# Altium schematic symbol library B105digital_ic.SchLib: 36 symbols (part 4 of 4)
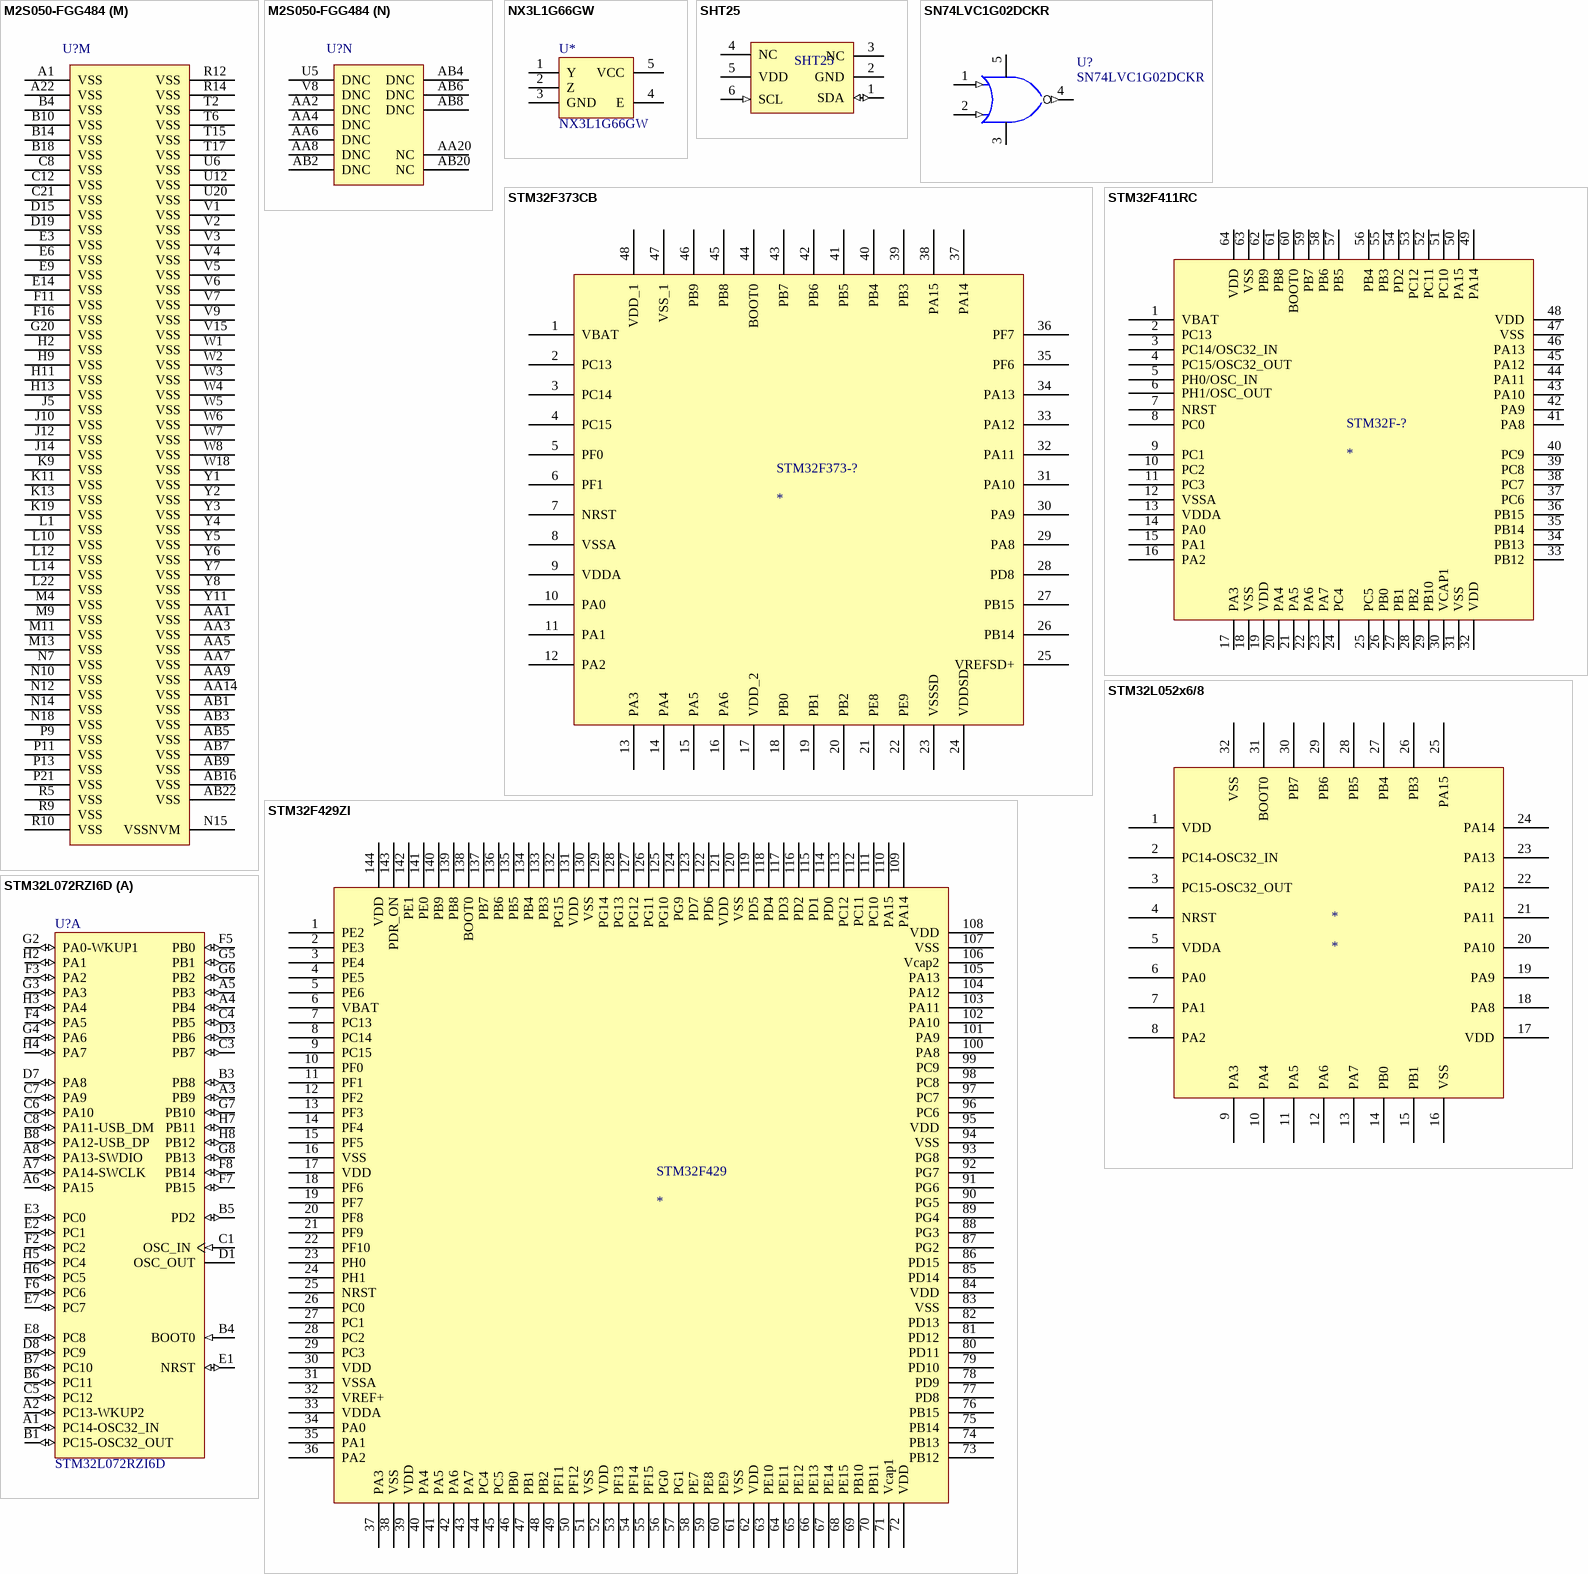
[diagram p6: symbols M2S050-FGG484 to STM32L072RZI6D]

## M2S050-FGG484 (continued)
part M pins: A1 VSS (power) "Ground pad for core and I/Os. Must always connect to ground.", A22 VSS (power) "Ground pad for core and I/Os. Must always connect to ground.", AA1 VSS (power) "Ground pad for core and I/Os. Must always connect to ground.", AA3 VSS (power) "Ground pad for core and I/Os. Must always connect to ground.", AA5 VSS (power) "Ground pad for core and I/Os. Must always connect to ground.", AA7 VSS (power) "Ground pad for core and I/Os. Must always connect to ground.", AA9 VSS (power) "Ground pad for core and I/Os. Must always connect to ground.", AA14 VSS (power) "Ground pad for core and I/Os. Must always connect to ground.", AB1 VSS (power) "Ground pad for core and I/Os. Must always connect to ground.", AB3 VSS (power) "Ground pad for core and I/Os. Must always connect to ground.", AB5 VSS (power) "Ground pad for core and I/Os. Must always connect to ground.", AB7 VSS (power) "Ground pad for core and I/Os. Must always connect to ground.", AB9 VSS (power) "Ground pad for core and I/Os. Must always connect to ground.", AB16 VSS (power) "Ground pad for core and I/Os. Must always connect to ground.", AB22 VSS (power) "Ground pad for core and I/Os. Must always connect to ground.", B4 VSS (power) "Ground pad for core and I/Os. Must always connect to ground.", B10 VSS (power) "Ground pad for core and I/Os. Must always connect to ground.", B14 VSS (power) "Ground pad for core and I/Os. Must always connect to ground.", B18 VSS (power) "Ground pad for core and I/Os. Must always connect to ground.", C8 VSS (power) "Ground pad for core and I/Os. Must always connect to ground.", C12 VSS (power) "Ground pad for core and I/Os. Must always connect to ground.", C21 VSS (power) "Ground pad for core and I/Os. Must always connect to ground.", D15 VSS (power) "Ground pad for core and I/Os. Must always connect to ground.", D19 VSS (power) "Ground pad for core and I/Os. Must always connect to ground.", E3 VSS (power) "Ground pad for core and I/Os. Must always connect to ground.", E6 VSS (power) "Ground pad for core and I/Os. Must always connect to ground.", E9 VSS (power) "Ground pad for core and I/Os. Must always connect to ground.", E14 VSS (power) "Ground pad for core and I/Os. Must always connect to ground.", F11 VSS (power) "Ground pad for core and I/Os. Must always connect to ground.", F16 VSS (power) "Ground pad for core and I/Os. Must always connect to ground.", G20 VSS (power) "Ground pad for core and I/Os. Must always connect to ground.", H2 VSS (power) "Ground pad for core and I/Os. Must always connect to ground.", H9 VSS (power) "Ground pad for core and I/Os. Must always connect to ground.", H11 VSS (power) "Ground pad for core and I/Os. Must always connect to ground.", H13 VSS (power) "Ground pad for core and I/Os. Must always connect to ground.", J5 VSS (power) "Ground pad for core and I/Os. Must always connect to ground.", J10 VSS (power) "Ground pad for core and I/Os. Must always connect to ground.", J12 VSS (power) "Ground pad for core and I/Os. Must always connect to ground.", J14 VSS (power) "Ground pad for core and I/Os. Must always connect to ground.", K9 VSS (power) "Ground pad for core and I/Os. Must always connect to ground.", K11 VSS (power) "Ground pad for core and I/Os. Must always connect to ground.", K13 VSS (power) "Ground pad for core and I/Os. Must always connect to ground.", K19 VSS (power) "Ground pad for core and I/Os. Must always connect to ground.", L1 VSS (power) "Ground pad for core and I/Os. Must always connect to ground.", L10 VSS (power) "Ground pad for core and I/Os. Must always connect to ground.", L12 VSS (power) "Ground pad for core and I/Os. Must always connect to ground.", L14 VSS (power) "Ground pad for core and I/Os. Must always connect to ground.", L22 VSS (power) "Ground pad for core and I/Os. Must always connect to ground.", M4 VSS (power) "Ground pad for core and I/Os. Must always connect to ground.", M9 VSS (power) "Ground pad for core and I/Os. Must always connect to ground.", M11 VSS (power) "Ground pad for core and I/Os. Must always connect to ground.", M13 VSS (power) "Ground pad for core and I/Os. Must always connect to ground.", N7 VSS (power) "Ground pad for core and I/Os. Must always connect to ground.", N10 VSS (power) "Ground pad for core and I/Os. Must always connect to ground.", N12 VSS (power) "Ground pad for core and I/Os. Must always connect to ground.", N14 VSS (power) "Ground pad for core and I/Os. Must always connect to ground.", N15 VSSNVM (power) "Analog sense circuit ground of eNVM. Must always connect to ground.", N18 VSS (power) "Ground pad for core and I/Os. Must always connect to ground.", P9 VSS (power) "Ground pad for core and I/Os. Must always connect to ground.", P11 VSS (power) "Ground pad for core and I/Os. Must always connect to ground.", P13 VSS (power) "Ground pad for core and I/Os. Must always connect to ground.", P21 VSS (power) "Ground pad for core and I/Os. Must always connect to ground.", R5 VSS (power) "Ground pad for core and I/Os. Must always connect to ground.", R9 VSS (power) "Ground pad for core and I/Os. Must always connect to ground.", R10 VSS (power) "Ground pad for core and I/Os. Must always connect to ground.", R12 VSS (power) "Ground pad for core and I/Os. Must always connect to ground.", R14 VSS (power) "Ground pad for core and I/Os. Must always connect to ground.", T2 VSS (power) "Ground pad for core and I/Os. Must always connect to ground.", T6 VSS (power) "Ground pad for core and I/Os. Must always connect to ground.", T15 VSS (power) "Ground pad for core and I/Os. Must always connect to ground.", T17 VSS (power) "Ground pad for core and I/Os. Must always connect to ground.", U6 VSS (power) "Ground pad for core and I/Os. Must always connect to ground.", U12 VSS (power) "Ground pad for core and I/Os. Must always connect to ground.", U20 VSS (power) "Ground pad for core and I/Os. Must always connect to ground.", V1 VSS (power) "Ground pad for core and I/Os. Must always connect to ground.", V2 VSS (power) "Ground pad for core and I/Os. Must always connect to ground.", V3 VSS (power) "Ground pad for core and I/Os. Must always connect to ground.", V4 VSS (power) "Ground pad for core and I/Os. Must always connect to ground.", V5 VSS (power) "Ground pad for core and I/Os. Must always connect to ground.", V6 VSS (power) "Ground pad for core and I/Os. Must always connect to ground.", V7 VSS (power) "Ground pad for core and I/Os. Must always connect to ground.", V9 VSS (power) "Ground pad for core and I/Os. Must always connect to ground.", V15 VSS (power) "Ground pad for core and I/Os. Must always connect to ground.", W1 VSS (power) "Ground pad for core and I/Os. Must always connect to ground.", W2 VSS (power) "Ground pad for core and I/Os. Must always connect to ground.", W3 VSS (power) "Ground pad for core and I/Os. Must always connect to ground.", W4 VSS (power) "Ground pad for core and I/Os. Must always connect to ground.", W5 VSS (power) "Ground pad for core and I/Os. Must always connect to ground.", W6 VSS (power) "Ground pad for core and I/Os. Must always connect to ground.", W7 VSS (power) "Ground pad for core and I/Os. Must always connect to ground.", W8 VSS (power) "Ground pad for core and I/Os. Must always connect to ground.", W18 VSS (power) "Ground pad for core and I/Os. Must always connect to ground.", Y1 VSS (power) "Ground pad for core and I/Os. Must always connect to ground.", Y2 VSS (power) "Ground pad for core and I/Os. Must always connect to ground.", Y3 VSS (power) "Ground pad for core and I/Os. Must always connect to ground.", Y4 VSS (power) "Ground pad for core and I/Os. Must always connect to ground.", Y5 VSS (power) "Ground pad for core and I/Os. Must always connect to ground.", Y6 VSS (power) "Ground pad for core and I/Os. Must always connect to ground.", Y7 VSS (power) "Ground pad for core and I/Os. Must always connect to ground.", Y8 VSS (power) "Ground pad for core and I/Os. Must always connect to ground.", Y11 VSS (power) "Ground pad for core and I/Os. Must always connect to ground."
part N pins: AA2 DNC "Do not connect. This pin should not be connected to any signals on the PCB; leave this pin unconnected.", AA4 DNC "Do not connect. This pin should not be connected to any signals on the PCB; leave this pin unconnected.", AA6 DNC "Do not connect. This pin should not be connected to any signals on the PCB; leave this pin unconnected.", AA8 DNC "Do not connect. This pin should not be connected to any signals on the PCB; leave this pin unconnected.", AA20 NC "No connect. This pin is not connected to circuitry within the device. This pin can be driven to any voltage or can be left floating with no effect on the operation of the device.", AB2 DNC "Do not connect. This pin should not be connected to any signals on the PCB; leave this pin unconnected.", AB4 DNC "Do not connect. This pin should not be connected to any signals on the PCB; leave this pin unconnected.", AB6 DNC "Do not connect. This pin should not be connected to any signals on the PCB; leave this pin unconnected.", AB8 DNC "Do not connect. This pin should not be connected to any signals on the PCB; leave this pin unconnected.", AB20 NC "No connect. This pin is not connected to circuitry within the device. This pin can be driven to any voltage or can be left floating with no effect on the operation of the device.", U5 DNC "Do not connect. This pin should not be connected to any signals on the PCB; leave this pin unconnected.", V8 DNC "Do not connect. This pin should not be connected to any signals on the PCB; leave this pin unconnected."
part A text: BANK 0
part B text: BANK 1
part C text: BANK 3
part D text: BANK 5
part E text: BANK 6
part F text: BANK 7
part G text: BANK 8

## NX3L1G66GW
designator U*
microswithc
footprint SOT-23-5 (SOT23, 5-Leads, Body 2,93x2,80mm, Pitch 0,95mm, IPC Medium Density)
footprint TSSOP-5 (TSSOP, 5-Leads, Body 2,05x1,25mm, Pitch 0,65mm, IPC Medium Density)
pins: 1 Y, 2 Z, 3 GND, 4 E, 5 VCC

## SHT25
designator SHT25  (value not drawn)
Sensor humedad y temperatura digital i2c
footprint SHT25 (humidity and temperature sensor)
pins: 1 SDA (io), 2 GND (power), 3 NC, 4 NC, 5 VDD (power), 6 SCL (in), 7 GND hidden to GND

## SN74LVC1G02DCKR
designator U?
IC GATE NOR 1CH 2-INP SC-70-5; Manufacturer: Texas Instruments; Logic Type: NOR Gate; Number of Circuits: 1; Number of Inputs: 2; Voltage - Supply: 1.65 V ~ 5.5 V; Current - Quiescent (Max): 10µA; Current - Output High, Low: 32mA, 32mA; Logic Level - Low: 0.7 V ~ 0.8 V; Logic Level - High: 1.7 V ~ 2 V; Max Propagation Delay @ V, Max CL: 4.5ns @ 5V, 50pF; Supplier 1: Digi-Key; Supplier Part Number 1: 296-11598-1-ND; Manufacturer Part Number: SN74LVC1G02DCKR; RoHS: RoHS Compliant; Category: Integrated Circuits (ICs); Packaging: Cut Tape (CT); Part Status: Active; Features: -; Operating Temperature: -40°C ~ 125°C; Mounting Type: Surface Mount; Supplier Device Package: SC-70-5; Package / Case: 5-TSSOP, SC-70-5, SOT-353; ComponentLink1URL: http://www.ti.com/lit/ds/symlink/sn74lvc1g02.pdf; ComponentLink1Description: http://www.ti.com/lit/ds/symlink/sn74lvc1g02.pdf; Supplier 2: Mouser; Supplier Part Number 2: 595-SN74LVC1G02DCKR; Supplier 3: Farnell; Supplier Part Number 3: 2395500
footprint SOT323-5L_L (SOT353, 5-Leads, Body 2x1.3mm, Pitch 0.65mm, Lead Span 2.1mm, IPC High Density)
footprint SOT323-5L_M (SOT353, 5-Leads, Body 2x1.3mm, Pitch 0.65mm, Lead Span 2.1mm, IPC Low Density)
footprint SOT323-5L_N (SOT353, 5-Leads, Body 2x1.3mm, Pitch 0.65mm, Lead Span 2.1mm, IPC Medium Density)
pins: 1 1A (in), 2 1B (in), 3 GND (power), 4 1Y (out), 5 VCC (power)

## STM32F373CB
designator STM32F373-?
footprint LQFP-48 (TSQFP, 48-Leads, Body 7,20x7,20mm, Pitch 0,50mm, IPC Medium Density)
pins: 1 VBAT, 2 PC13, 3 PC14, 4 PC15, 5 PF0, 6 PF1, 7 NRST, 8 VSSA, 9 VDDA, 10 PA0, 11 PA1, 12 PA2, 13 PA3, 14 PA4, 15 PA5, 16 PA6, 17 VDD_2, 18 PB0, 19 PB1, 20 PB2, 21 PE8, 22 PE9, 23 VSSSD, 24 VDDSD, 25 VREFSD+, 26 PB14, 27 PB15, 28 PD8, 29 PA8, 30 PA9, 31 PA10, 32 PA11, 33 PA12, 34 PA13, 35 PF6, 36 PF7, 37 PA14, 38 PA15, 39 PB3, 40 PB4, 41 PB5, 42 PB6, 43 PB7, 44 BOOT0, 45 PB8, 46 PB9, 47 VSS_1, 48 VDD_1

## STM32F411RC
designator STM32F-?
footprint LQFP-64 (TSQFP, 64-Leads, Body 10,00x10,00mm, Pitch 0,50mm, IPC Medium Density)
pins: 1 VBAT, 2 PC13, 3 PC14/OSC32_IN, 4 PC15/OSC32_OUT, 5 PH0/OSC_IN, 6 PH1/OSC_OUT, 7 NRST, 8 PC0, 9 PC1, 10 PC2, 11 PC3, 12 VSSA, 13 VDDA, 14 PA0, 15 PA1, 16 PA2, 17 PA3, 18 VSS, 19 VDD, 20 PA4, 21 PA5, 22 PA6, 23 PA7, 24 PC4, 25 PC5, 26 PB0, 27 PB1, 28 PB2, 29 PB10, 30 VCAP1, 31 VSS, 32 VDD, 33 PB12, 34 PB13, 35 PB14, 36 PB15, 37 PC6, 38 PC7, 39 PC8, 40 PC9, 41 PA8, 42 PA9, 43 PA10, 44 PA11, 45 PA12, 46 PA13, 47 VSS, 48 VDD, 49 PA14, 50 PA15, 51 PC10, 52 PC11, 53 PC12, 54 PD2, 55 PB3, 56 PB4, 57 PB5, 58 PB6, 59 PB7, 60 BOOT0, 61 PB8, 62 PB9, 63 VSS, 64 VDD

## STM32F429ZI
designator STM32F429
footprint LQFP-144
pins: 1 PE2, 2 PE3, 3 PE4, 4 PE5, 5 PE6, 6 VBAT, 7 PC13, 8 PC14, 9 PC15, 10 PF0, 11 PF1, 12 PF2, 13 PF3, 14 PF4, 15 PF5, 16 VSS, 17 VDD, 18 PF6, 19 PF7, 20 PF8, 21 PF9, 22 PF10, 23 PH0, 24 PH1, 25 NRST, 26 PC0, 27 PC1, 28 PC2, 29 PC3, 30 VDD, 31 VSSA, 32 VREF+, 33 VDDA, 34 PA0, 35 PA1, 36 PA2, 37 PA3, 38 VSS, 39 VDD, 40 PA4, 41 PA5, 42 PA6, 43 PA7, 44 PC4, 45 PC5, 46 PB0, 47 PB1, 48 PB2, 49 PF11, 50 PF12, 51 VSS, 52 VDD, 53 PF13, 54 PF14, 55 PF15, 56 PG0, 57 PG1, 58 PE7, 59 PE8, 60 PE9, 61 VSS, 62 VDD, 63 PE10, 64 PE11, 65 PE12, 66 PE13, 67 PE14, 68 PE15, 69 PB10, 70 PB11, 71 Vcap1, 72 VDD, 73 PB12, 74 PB13, 75 PB14, 76 PB15, 77 PD8, 78 PD9, 79 PD10, 80 PD11, 81 PD12, 82 PD13, 83 VSS, 84 VDD, 85 PD14, 86 PD15, 87 PG2, 88 PG3, 89 PG4, 90 PG5, 91 PG6, 92 PG7, 93 PG8, 94 VSS, 95 VDD, 96 PC6, 97 PC7, 98 PC8, 99 PC9, 100 PA8, 101 PA9, 102 PA10, 103 PA11, 104 PA12, 105 PA13, 106 Vcap2, 107 VSS, 108 VDD, 109 PA14, 110 PA15, 111 PC10, 112 PC11, 113 PC12, 114 PD0, 115 PD1, 116 PD2, 117 PD3, 118 PD4, 119 PD5, 120 VSS, 121 VDD, 122 PD6, 123 PD7, 124 PG9, 125 PG10, 126 PG11, 127 PG12, 128 PG13, 129 PG14, 130 VSS, 131 VDD, 132 PG15, 133 PB3, 134 PB4, 135 PB5, 136 PB6, 137 PB7, 138 BOOT0, 139 PB8, 140 PB9, 141 PE0, 142 PE1, 143 PDR_ON, 144 VDD

## STM32L052x6/8
designator *
footprint LQFP-32 (TQFP, 32-Leads, Body 7,00x7,00mm, Pitch 0,80mm, IPC Medium Density)
pins: 1 VDD, 2 PC14-OSC32_IN, 3 PC15-OSC32_OUT, 4 NRST, 5 VDDA, 6 PA0, 7 PA1, 8 PA2, 9 PA3, 10 PA4, 11 PA5, 12 PA6, 13 PA7, 14 PB0, 15 PB1, 16 VSS, 17 VDD, 18 PA8, 19 PA9, 20 PA10, 21 PA11, 22 PA12, 23 PA13, 24 PA14, 25 PA15, 26 PB3, 27 PB4, 28 PB5, 29 PB6, 30 PB7, 31 BOOT0, 32 VSS

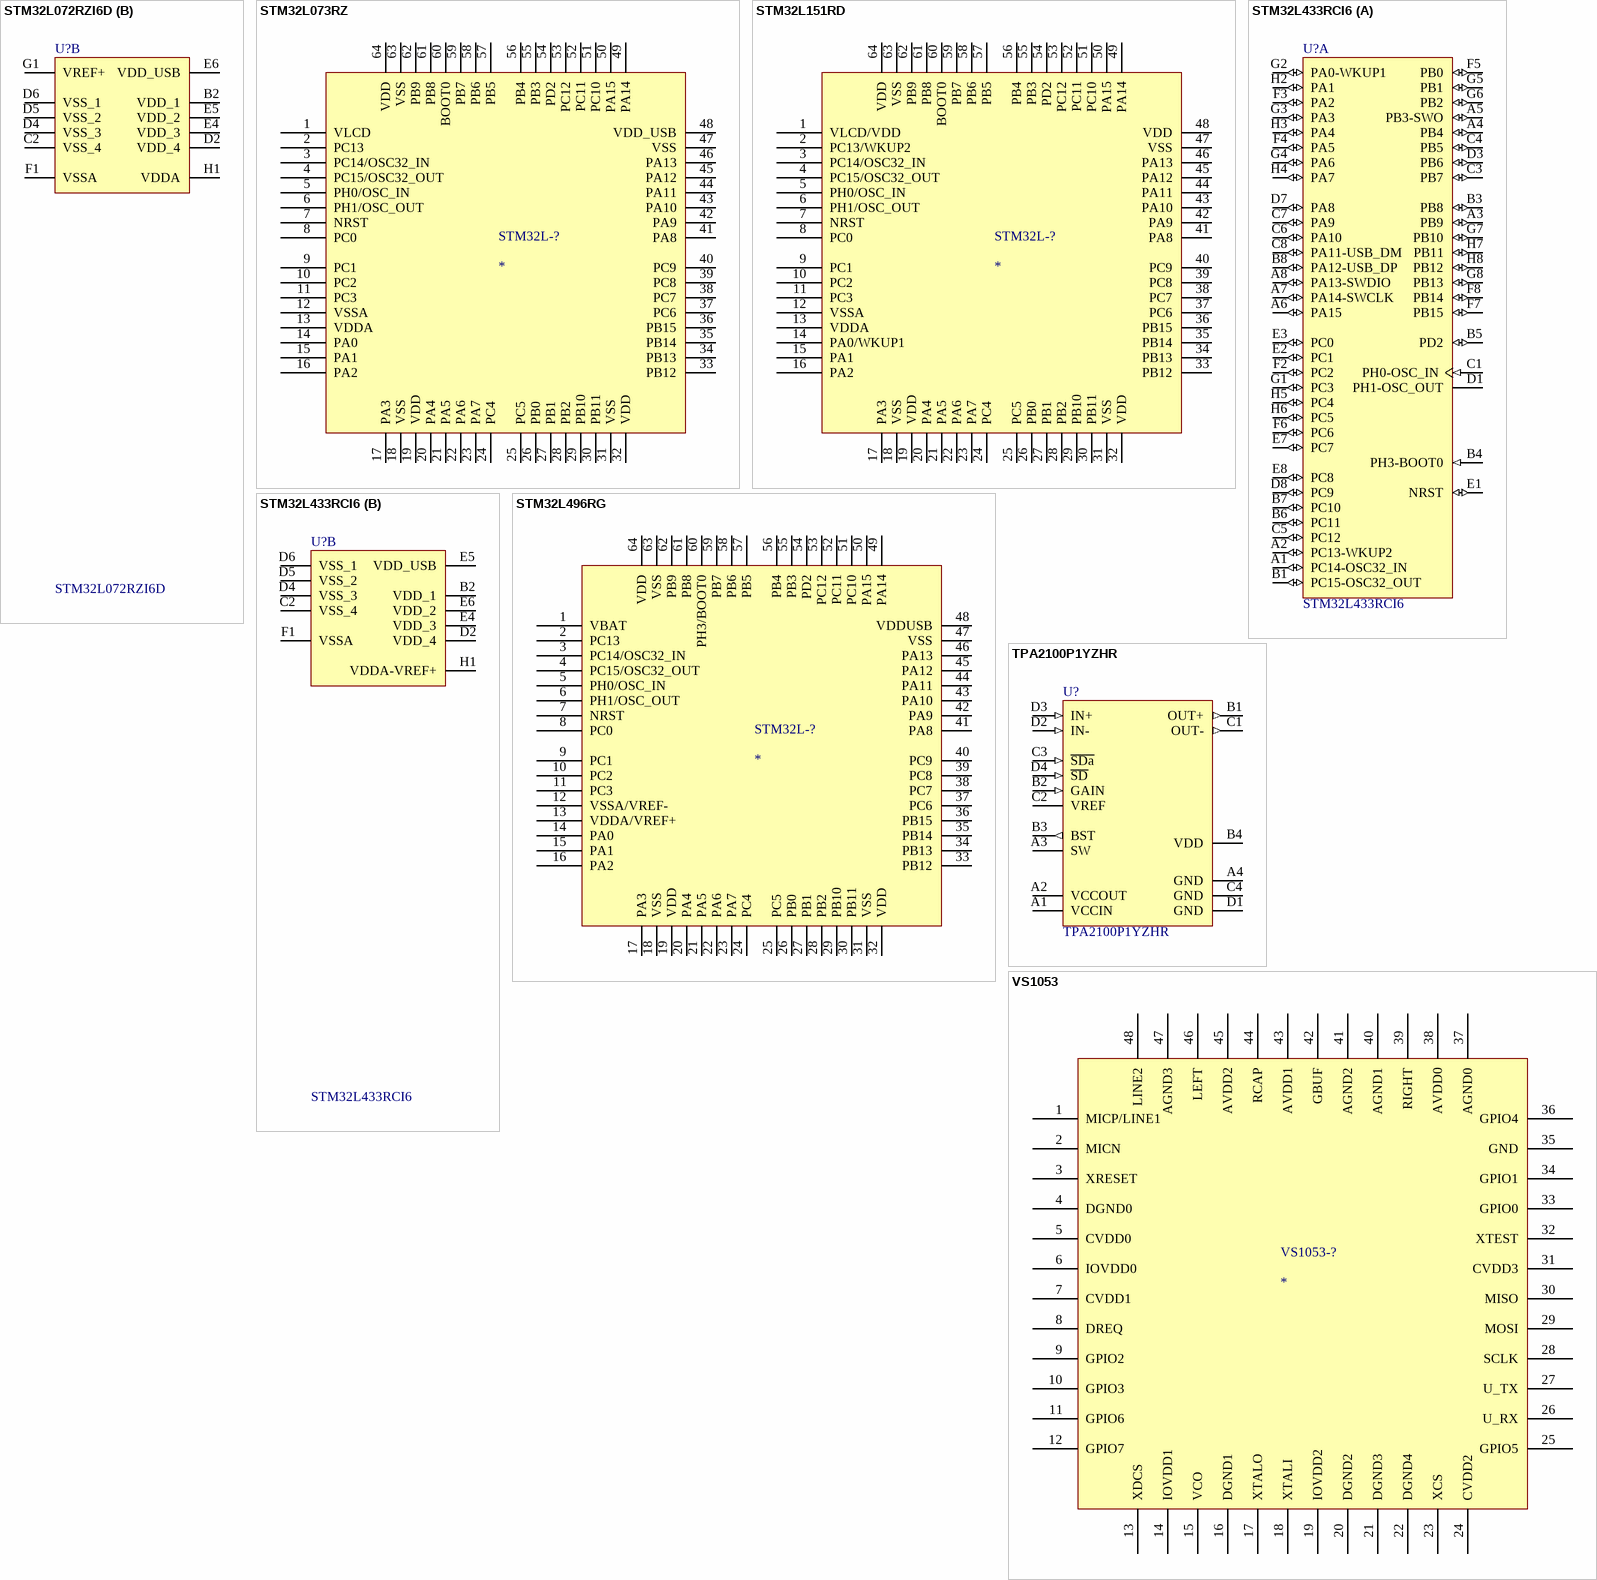
[diagram p4: symbols STM32L072RZI6D to VS1053]

## STM32L072RZI6D
designator U?
IC MCU 32BIT 192KB FLASH 64BGA; Manufacturer: STMicroelectronics; Core Processor: ARM® Cortex®-M0+; Core Size: 32-Bit; Speed: 32MHz; Connectivity: I²C, IrDA, SPI, UART/USART, USB; Peripherals: Brown-out Detect/Reset, DMA, POR, PWM, WDT; Number of I/O: 51; Program Memory Size: 192KB (192K x 8); EEPROM Size: 6K x 8; RAM Size: 20K x 8; Voltage - Supply (Vcc/Vdd): 1.65 V ~ 3.6 V; Data Converters: A/D 16x12b, D/A 2x12b; Oscillator Type: Internal; Supplier 1: Digi-Key; Supplier Part Number 1: STM32L072RZI6D-ND; Manufacturer Part Number: STM32L072RZI6D; RoHS: RoHS Compliant; Category: Integrated Circuits (ICs); Packaging: Tray; Part Status: Active; Program Memory Type: FLASH; Operating Temperature: -40°C ~ 85°C (TA); Package / Case: 64-UFBGA; Supplier Device Package: 64-UFBGA (5x5); ComponentLink1URL: http://www.st.com/content/ccc/resource/technical/document/datasheet/98/e1/71/c0/ae/f5/4b/d4/DM00141133.pdf/files/DM00141133.pdf/jcr:content/translations/en.DM00141133.pdf; ComponentLink1Description: http://www.st.com/content/ccc/resource/technical/document/datasheet/98/e1/71/c0/ae/f5/4b/d4/DM00141133.pdf/files/DM00141133.pdf/jcr:content/translations/en.DM00141133.pdf; Supplier 2: Mouser; Supplier Part Number 2: 511-STM32L072RZI6D; Supplier 3: Farnell; Supplier Part Number 3: 2518153
footprint STM-UFBGA64 (BGA, 64-Balls, Body 5x5mm, Pitch 0.5mm)
part A pins: A1 PC14-OSC32_IN (io) "PC14-OSC32_IN/PC14/OSC32_IN", A2 PC13-WKUP2 (io) "PC13-TAMPER-RTC/PC13/TAMPER-RTC", A3 PB9 (io) "PB9/TIM4_CH4/TIM17_CH1/I2C1_SDA", A4 PB4 (io) "PB4/NJTRST/TIM3_CH1/SPI1_MISO", A5 PB3 (io) "PB3/JTDO/TIM2_CH2/TRACESWO/SPI1_SCK", A6 PA15 (io) "PA15/JTDI/TIM2_CH1_ETR/SPI1_NSS", A7 PA14-SWCLK (io) "PA14/JTCK/SWCLK", A8 PA13-SWDIO (io) "PA13/JTMS-SWDIO", B1 PC15-OSC32_OUT (io) "PC15-OSC32_OUT/PC15/OSC32_OUT", B3 PB8 (io) "PB8/TIM4_CH3/TIM16_CH1/CEC/I2C1_SCL", B4 BOOT0 (in), B5 PD2 (io) "PD2/TIM3_ETR", B6 PC11 (io) "PC11/USART3_RX", B7 PC10 (io) "PC10/USART3_TX", B8 PA12-USB_DP (io) "PA12/USART1_RTS/TIM1_ETR", C1 OSC_IN (in) "PD0/OSC_IN", C3 PB7 (io) "PB7/I2C1_SDA/TIM17_CH1N/TIM4_CH2/USART1_RX", C4 PB5 (io) "PB5/I2C1_SMBA/TIM16_BKIN/TIM3_CH2/SPI1_MOSI", C5 PC12 (io) "PC12/USART3_CK", C6 PA10 (io) "PA10/USART1_RX/TIM1_CH3/TIM17_BKIN", C7 PA9 (io) "PA9/USART1_TX/TIM1_CH2/TIM15_BKIN", C8 PA11-USB_DM (io) "PA11/USART1_CTS/TIM1_CH4", D1 OSC_OUT "PD1/OSC_OUT", D3 PB6 (io) "PB6/I2C1_SCL/TIM4_CH1/TIM16_CH1N/USART1_TX", D7 PA8 (io) "PA8/USART1_CK/MCO/TIM1_CH1", D8 PC9 (io) "PC9/TIM3_CH4", E1 NRST (io), E2 PC1 (io) "PC1/ADC1_IN11", E3 PC0 (io) "PC0/ADC1_IN10", E7 PC7 (io) "PC7/TIM3_CH2", E8 PC8 (io) "PC8/TIM3_CH3", F2 PC2 (io) "PC2/ADC1_IN12", F3 PA2 (io) "PA2/USART2_TX/ADC1_IN2/TIM2_CH3/TIM15_CH1", F4 PA5 (io) "PA5/SPI1_SCK/ADC1_IN5/DAC2_OUT", F5 PB0 (io) "PB0/ADC1_IN8/TIM3_CH3/TIM1_CH2N", F6 PC6 (io) "PC6/TIM3_CH1", F7 PB15 (io) "PB15/SPI2_MOSI/TIM1_CH3N/TIM15_CH1N/TIM15_CH2", F8 PB14 (io) "PB14/SPI2_MISO/TIM1_CH2N/USART3_RTS/TIM15_CH1", G2 PA0-WKUP1 (io) "PA0-WKUP/PA0/WKUP/USART2_CTS/ADC1_IN0/TIM2_CH1_ETR", G3 PA3 (io) "PA3/USART2_RX/ADC1_IN3/TIM2_CH4/TIM15_CH2", G4 PA6 (io) "PA6/SPI1_MISO/ADC1_IN6/TIM3_CH1/TIM1_BKIN/TIM16_CH1", G5 PB1 (io) "PB1/ADC1_IN9/TIM3_CH4/TIM1_CH3N", G6 PB2 (io) "PB2/BOOT1", G7 PB10 (io) "PB10/I2C2_SCL/USART3_TX/TIM2_CH3/HDMI_CEC", G8 PB13 (io) "PB13/SPI2_SCK/TIM1_CH1N/USART3_CTS", H2 PA1 (io) "PA1/USART2_RTS/ADC1_IN1/TIM2_CH2", H3 PA4 (io) "PA4/SPI1_NSS/ADC1_IN4/USART2_CK/DAC1_OUT", H4 PA7 (io) "PA7/SPI1_MOSI/ADC1_IN7/TIM3_CH2/TIM1_CH1N/TIM17_CH1", H5 PC4 (io) "PC4/ADC1_IN14", H6 PC5 (io) "PC5/ADC1_IN15", H7 PB11 (io) "PB11/I2C2_SDA/USART3_RX/TIM2_CH4", H8 PB12 (io) "PB12/SPI2_NSS/I2C2_SMBA/TIM1_BKIN/USART3_CK"
part B pins: B2 VDD_1 (power) "VBAT", C2 VSS_4 (power), D2 VDD_4 (power), D4 VSS_3 (power), D5 VSS_2 (power), D6 VSS_1 (power), E4 VDD_3 (power), E5 VDD_2 (power), E6 VDD_USB (power) "VDD_1", F1 VSSA (power), G1 VREF+ (power), H1 VDDA (power)

## STM32L073RZ
designator STM32L-?
footprint LQFP-64 (TSQFP, 64-Leads, Body 10,00x10,00mm, Pitch 0,50mm, IPC Medium Density)
pins: 1 VLCD, 2 PC13, 3 PC14/OSC32_IN, 4 PC15/OSC32_OUT, 5 PH0/OSC_IN, 6 PH1/OSC_OUT, 7 NRST, 8 PC0, 9 PC1, 10 PC2, 11 PC3, 12 VSSA, 13 VDDA, 14 PA0, 15 PA1, 16 PA2, 17 PA3, 18 VSS, 19 VDD, 20 PA4, 21 PA5, 22 PA6, 23 PA7, 24 PC4, 25 PC5, 26 PB0, 27 PB1, 28 PB2, 29 PB10, 30 PB11, 31 VSS, 32 VDD, 33 PB12, 34 PB13, 35 PB14, 36 PB15, 37 PC6, 38 PC7, 39 PC8, 40 PC9, 41 PA8, 42 PA9, 43 PA10, 44 PA11, 45 PA12, 46 PA13, 47 VSS, 48 VDD_USB, 49 PA14, 50 PA15, 51 PC10, 52 PC11, 53 PC12, 54 PD2, 55 PB3, 56 PB4, 57 PB5, 58 PB6, 59 PB7, 60 BOOT0, 61 PB8, 62 PB9, 63 VSS, 64 VDD

## STM32L151RD
designator STM32L-?
footprint LQFP-64 (TSQFP, 64-Leads, Body 10,00x10,00mm, Pitch 0,50mm, IPC Medium Density)
pins: 1 VLCD/VDD, 2 PC13/WKUP2, 3 PC14/OSC32_IN, 4 PC15/OSC32_OUT, 5 PH0/OSC_IN, 6 PH1/OSC_OUT, 7 NRST, 8 PC0, 9 PC1, 10 PC2, 11 PC3, 12 VSSA, 13 VDDA, 14 PA0/WKUP1, 15 PA1, 16 PA2, 17 PA3, 18 VSS, 19 VDD, 20 PA4, 21 PA5, 22 PA6, 23 PA7, 24 PC4, 25 PC5, 26 PB0, 27 PB1, 28 PB2, 29 PB10, 30 PB11, 31 VSS, 32 VDD, 33 PB12, 34 PB13, 35 PB14, 36 PB15, 37 PC6, 38 PC7, 39 PC8, 40 PC9, 41 PA8, 42 PA9, 43 PA10, 44 PA11, 45 PA12, 46 PA13, 47 VSS, 48 VDD, 49 PA14, 50 PA15, 51 PC10, 52 PC11, 53 PC12, 54 PD2, 55 PB3, 56 PB4, 57 PB5, 58 PB6, 59 PB7, 60 BOOT0, 61 PB8, 62 PB9, 63 VSS, 64 VDD

## STM32L433RCI6
designator U?
IC MCU 32BIT 256KB FLASH 64BGA; Manufacturer: STMicroelectronics; Core Processor: ARM® Cortex®-M4; Core Size: 32-Bit; Speed: 80MHz; Connectivity: CAN, I²C, IrDA, LIN, MMC/SD, QSPI, SAI, SPI, SWPMI, UART/USART, USB; Peripherals: Brown-out Detect/Reset, DMA, LCD, PWM, WDT; Number of I/O: 52; Program Memory Size: 256KB (256K x 8); RAM Size: 64K x 8; Voltage - Supply (Vcc/Vdd): 1.71 V ~ 3.6 V; Data Converters: A/D 16x12b, D/A 2x12b; Oscillator Type: Internal; Supplier 1: Digi-Key; Supplier Part Number 1: 497-16581-ND; RoHS: RoHS Compliant; Category: Integrated Circuits (ICs); Stock: 2569; Pricing: 1=5.42, 10=4.869, 100=3.9891, 500=3.39578, 1000=2.86391 (EUR); Packaging: Tray; Part Status: Active; Program Memory Type: FLASH; EEPROM Size: -; Operating Temperature: -40°C ~ 85°C (TA); Package / Case: 64-UFBGA; Supplier Device Package: 64-UFBGA (5x5); ComponentLink1URL: http://www.st.com/content/ccc/resource/technical/document/datasheet/f7/a0/fc/27/24/4e/4f/3f/DM00257192.pdf/files/DM00257192.pdf/jcr:content/translations/en.DM00257192.pdf; ComponentLink1Description: http://www.st.com/content/ccc/resource/technical/document/datasheet/f7/a0/fc/27/24/4e/4f/3f/DM00257192.pdf/files/DM00257192.pdf/jcr:content/translations/en.DM00257192.pdf; Supplier 2: Mouser; Supplier Part Number 2: 511-STM32L433RCI6; Manufacturer Part Number: STM32L433RCI6
footprint STM-UFBGA64 (BGA, 64-Balls, Body 5x5mm, Pitch 0.5mm)
part A pins: A1 PC14-OSC32_IN (io) "PC14-OSC32_IN/PC14/OSC32_IN", A2 PC13-WKUP2 (io) "PC13-TAMPER-RTC/PC13/TAMPER-RTC", A3 PB9 (io) "PB9/TIM4_CH4/TIM17_CH1/I2C1_SDA", A4 PB4 (io) "PB4/NJTRST/TIM3_CH1/SPI1_MISO", A5 PB3-SWO (io) "PB3/JTDO/TIM2_CH2/TRACESWO/SPI1_SCK", A6 PA15 (io) "PA15/JTDI/TIM2_CH1_ETR/SPI1_NSS", A7 PA14-SWCLK (io) "PA14/JTCK/SWCLK", A8 PA13-SWDIO (io) "PA13/JTMS-SWDIO", B1 PC15-OSC32_OUT (io) "PC15-OSC32_OUT/PC15/OSC32_OUT", B3 PB8 (io) "PB8/TIM4_CH3/TIM16_CH1/CEC/I2C1_SCL", B4 PH3-BOOT0 (in) "BOOT0", B5 PD2 (io) "PD2/TIM3_ETR", B6 PC11 (io) "PC11/USART3_RX", B7 PC10 (io) "PC10/USART3_TX", B8 PA12-USB_DP (io) "PA12/USART1_RTS/TIM1_ETR", C1 PH0-OSC_IN (in) "PD0/OSC_IN", C3 PB7 (io) "PB7/I2C1_SDA/TIM17_CH1N/TIM4_CH2/USART1_RX", C4 PB5 (io) "PB5/I2C1_SMBA/TIM16_BKIN/TIM3_CH2/SPI1_MOSI", C5 PC12 (io) "PC12/USART3_CK", C6 PA10 (io) "PA10/USART1_RX/TIM1_CH3/TIM17_BKIN", C7 PA9 (io) "PA9/USART1_TX/TIM1_CH2/TIM15_BKIN", C8 PA11-USB_DM (io) "PA11/USART1_CTS/TIM1_CH4", D1 PH1-OSC_OUT "PD1/OSC_OUT", D3 PB6 (io) "PB6/I2C1_SCL/TIM4_CH1/TIM16_CH1N/USART1_TX", D7 PA8 (io) "PA8/USART1_CK/MCO/TIM1_CH1", D8 PC9 (io) "PC9/TIM3_CH4", E1 NRST (io), E2 PC1 (io) "PC1/ADC1_IN11", E3 PC0 (io) "PC0/ADC1_IN10", E7 PC7 (io) "PC7/TIM3_CH2", E8 PC8 (io) "PC8/TIM3_CH3", F2 PC2 (io) "PC2/ADC1_IN12", F3 PA2 (io) "PA2/USART2_TX/ADC1_IN2/TIM2_CH3/TIM15_CH1", F4 PA5 (io) "PA5/SPI1_SCK/ADC1_IN5/DAC2_OUT", F5 PB0 (io) "PB0/ADC1_IN8/TIM3_CH3/TIM1_CH2N", F6 PC6 (io) "PC6/TIM3_CH1", F7 PB15 (io) "PB15/SPI2_MOSI/TIM1_CH3N/TIM15_CH1N/TIM15_CH2", F8 PB14 (io) "PB14/SPI2_MISO/TIM1_CH2N/USART3_RTS/TIM15_CH1", G1 PC3 (io) "PC2/ADC1_IN12", G2 PA0-WKUP1 (io) "PA0-WKUP/PA0/WKUP/USART2_CTS/ADC1_IN0/TIM2_CH1_ETR", G3 PA3 (io) "PA3/USART2_RX/ADC1_IN3/TIM2_CH4/TIM15_CH2", G4 PA6 (io) "PA6/SPI1_MISO/ADC1_IN6/TIM3_CH1/TIM1_BKIN/TIM16_CH1", G5 PB1 (io) "PB1/ADC1_IN9/TIM3_CH4/TIM1_CH3N", G6 PB2 (io) "PB2/BOOT1", G7 PB10 (io) "PB10/I2C2_SCL/USART3_TX/TIM2_CH3/HDMI_CEC", G8 PB13 (io) "PB13/SPI2_SCK/TIM1_CH1N/USART3_CTS", H2 PA1 (io) "PA1/USART2_RTS/ADC1_IN1/TIM2_CH2", H3 PA4 (io) "PA4/SPI1_NSS/ADC1_IN4/USART2_CK/DAC1_OUT", H4 PA7 (io) "PA7/SPI1_MOSI/ADC1_IN7/TIM3_CH2/TIM1_CH1N/TIM17_CH1", H5 PC4 (io) "PC4/ADC1_IN14", H6 PC5 (io) "PC5/ADC1_IN15", H7 PB11 (io) "PB11/I2C2_SDA/USART3_RX/TIM2_CH4", H8 PB12 (io) "PB12/SPI2_NSS/I2C2_SMBA/TIM1_BKIN/USART3_CK"
part B pins: B2 VDD_1 (power) "VBAT", C2 VSS_4 (power), D2 VDD_4 (power), D4 VSS_3 (power), D5 VSS_2 (power), D6 VSS_1 (power), E4 VDD_3 (power), E5 VDD_USB (power) "VDD_1", E6 VDD_2 (power), F1 VSSA (power), H1 VDDA-VREF+ (power) "VDDA"

## STM32L496RG
designator STM32L-?
footprint LQFP-64 (TSQFP, 64-Leads, Body 10,00x10,00mm, Pitch 0,50mm, IPC Medium Density)
pins: 1 VBAT, 2 PC13, 3 PC14/OSC32_IN, 4 PC15/OSC32_OUT, 5 PH0/OSC_IN, 6 PH1/OSC_OUT, 7 NRST, 8 PC0, 9 PC1, 10 PC2, 11 PC3, 12 VSSA/VREF-, 13 VDDA/VREF+, 14 PA0, 15 PA1, 16 PA2, 17 PA3, 18 VSS, 19 VDD, 20 PA4, 21 PA5, 22 PA6, 23 PA7, 24 PC4, 25 PC5, 26 PB0, 27 PB1, 28 PB2, 29 PB10, 30 PB11, 31 VSS, 32 VDD, 33 PB12, 34 PB13, 35 PB14, 36 PB15, 37 PC6, 38 PC7, 39 PC8, 40 PC9, 41 PA8, 42 PA9, 43 PA10, 44 PA11, 45 PA12, 46 PA13, 47 VSS, 48 VDDUSB, 49 PA14, 50 PA15, 51 PC10, 52 PC11, 53 PC12, 54 PD2, 55 PB3, 56 PB4, 57 PB5, 58 PB6, 59 PB7, 60 PH3/BOOT0, 61 PB8, 62 PB9, 63 VSS, 64 VDD

## TPA2100P1YZHR
designator U?
19-Vpp Mono Class-D Audio Amplifier for Piezo/Ceramic Speakers; Manufacturer: Texas Instruments; Output Type: 1-Channel (Mono); Voltage - Supply: 2.5 V ~ 5.5 V; Supplier 1: Digi-Key; Supplier Part Number 1: 296-24036-1-ND; Manufacturer Part Number: TPA2100P1YZHR; RoHS: RoHS Compliant; Category: Integrated Circuits (ICs); Packaging: Cut Tape (CT); Type: Class D; Max Output Power x Channels @ Load: -; Features: Differential Inputs, Short-Circuit and Thermal Protection, Shutdown; Mounting Type: Surface Mount; Operating Temperature: -40°C ~ 85°C (TA); Supplier Device Package: 16-DSBGA (2x2); Package / Case: 16-UFBGA, DSBGA; ComponentLink1URL: http://www.ti.com/lit/ds/symlink/tpa2100p1.pdf; ComponentLink1Description: Datasheet; Supplier 2: Mouser; Supplier Part Number 2: 595-TPA2100P1YZHT
footprint TI-YZH16-2280X2280DE (BGA, 16-Balls, Body 2.28x2.28mm, Pitch 0.5mm)
pins: A1 VCCIN (power) "High-voltage power supply (for output stages)", A2 VCCOUT (power) "High-voltage power supply (for output stages)", A3 SW (power) "Connect 1 uF capacitor to ground for BYPASS voltage filtering", A4 GND (power) "Power ground", B1 OUT+ (out) "Positive BTL output, connect Schottky diode from PGND to OUTP for short-circuit protection", B2 GAIN (in) "Bit 1 of gain control (see Table 2 for gain settings)", B3 BST (out) "Bootstrap terminal for high-side gate drive of positive BTL output (connect a 0.22 uF capacitor with a 51 ohm resistor in series from OUTP to BSP)", B4 VDD (power) "Analog high-voltage power supply", C1 OUT- (out) "Negative BTL output, connect Schottky diode from PGND to OUTN for short-circuit protection", C2 VREF "5-V internal regulator for control circuitry (connect a 0.1 uF to 1 uF capacitor to ground)", C3 ~{SDa} (in) "Bit 1 of gain control (see Table 2 for gain settings)", C4 GND (power) "Power ground", D1 GND (power) "Power ground", D2 IN- (in) "Negative differential input", D3 IN+ (in) "Positive differential input", D4 ~{SD} (in) "Shutdown terminal (active low), TTL compatible, 21-V compliant"

## VS1053
designator VS1053-?
footprint LQFP-48 (TSQFP, 48-Leads, Body 7,20x7,20mm, Pitch 0,50mm, IPC Medium Density)
pins: 1 MICP/LINE1, 2 MICN, 3 XRESET, 4 DGND0, 5 CVDD0, 6 IOVDD0, 7 CVDD1, 8 DREQ, 9 GPIO2, 10 GPIO3, 11 GPIO6, 12 GPIO7, 13 XDCS, 14 IOVDD1, 15 VCO, 16 DGND1, 17 XTALO, 18 XTALI, 19 IOVDD2, 20 DGND2, 21 DGND3, 22 DGND4, 23 XCS, 24 CVDD2, 25 GPIO5, 26 U_RX, 27 U_TX, 28 SCLK, 29 MOSI, 30 MISO, 31 CVDD3, 32 XTEST, 33 GPIO0, 34 GPIO1, 35 GND, 36 GPIO4, 37 AGND0, 38 AVDD0, 39 RIGHT, 40 AGND1, 41 AGND2, 42 GBUF, 43 AVDD1, 44 RCAP, 45 AVDD2, 46 LEFT, 47 AGND3, 48 LINE2